# Altium schematic symbol library BuckConverterSchLib.SCHLIB: 28 symbols
Pins are listed as number, name and electrical type; pins without a type are passive.

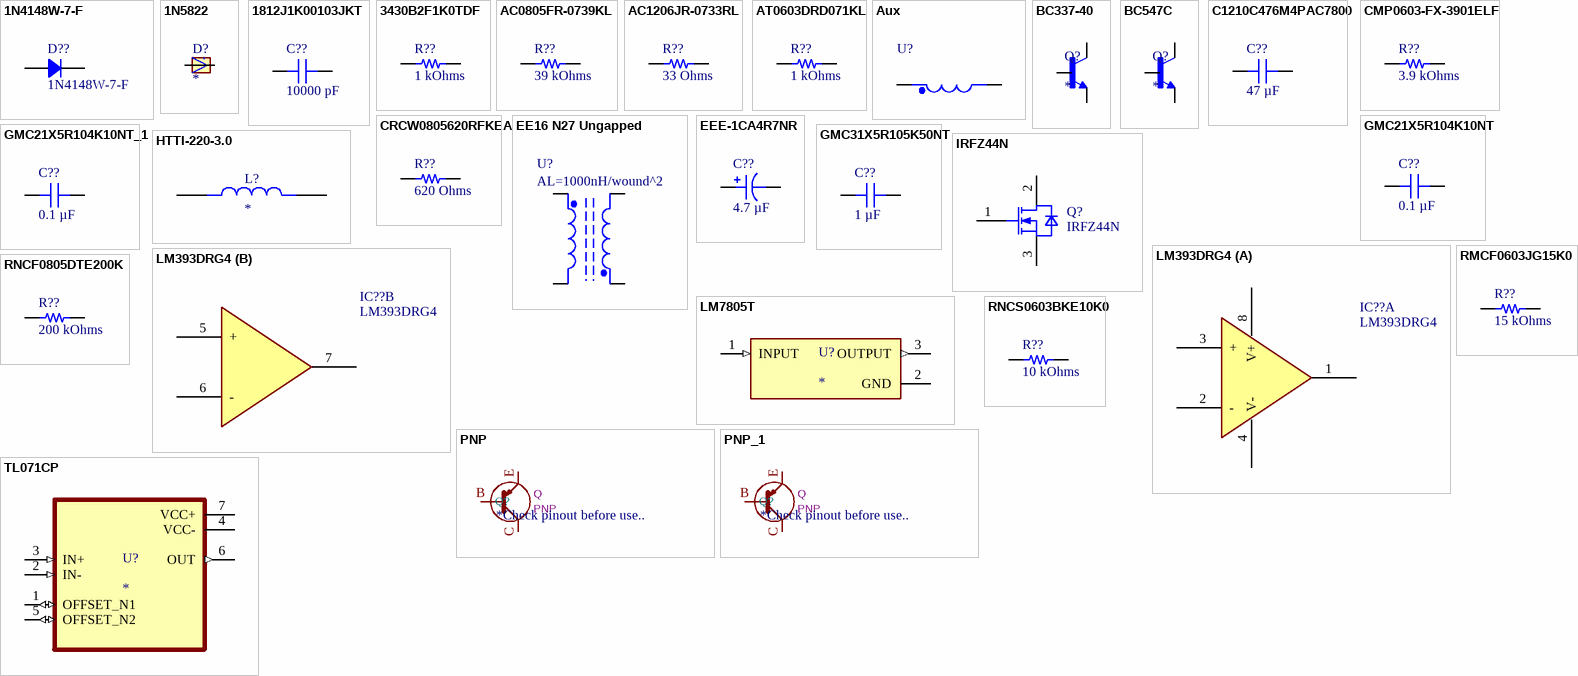
[diagram p0: symbols 1N4148W-7-F to TL071CP]

## 1N4148W-7-F
designator D??
DIODE STANDARD 100V 150MA SOD123; Manufacturer: Diodes Incorporated; Capacitance @ Vr, F: 2pF @ 0V, 1MHz; Current - Reverse Leakage @ Vr: 1 µA @ 75 V; Reverse Recovery Time (trr): 4 ns; Speed: Fast Recovery =< 500ns, > 200mA (Io); Voltage - Forward (Vf) (Max) @ If: 1.25 V @ 150 mA; Part Number: 1N4148W-7-F; ComponentLink1Description: Datasheet; ComponentLink1URL: https://www.diodes.com/assets/Datasheets/ds30086.pdf; ComponentLink2Description: DigiKey Link; ComponentLink2URL: https://www.digikey.com/en/products/detail/diodes-incorporated/1N4148W-7-F/814371; Current - Average Rectified (Io): 150mA; Diode Type: Standard; LastUpdated: 5.04.2026 20:31:46; Lifecycle Status: Active; Minimum Order: 1; Mounting Type: Surface Mount; Operating Temperature - Junction: -55°C ~ 150°C; Package / Case: SOD-123; Packaging: TapeAndReel; PartId: 1002; Part Status: Active; Price: 0.02; Series: -; Supplier 1: DigiKey; Supplier Part Number 1: 1N4148W-FDICT-ND; Supplier Device Package: SOD-123; Voltage - DC Reverse (Vr) (Max): 100 V
footprint SOD-123
pins: 1, 2

## 1N5822
designator D?
Schottky, DO-201, 40V, 3A, 150Â°C; MF: Diotec Semiconductor; MP: 1N5822; SnapEDA_Link: https://www.snapeda.com/parts/1N5822/Diotec/view-part/?ref=snap; Package: DO-201 Diotec; Value: *; Check_prices: https://www.snapeda.com/parts/1N5822/Diotec/view-part/?ref=eda
footprint DIOAD2120W130L950D530P
pins: A, C

## 1812J1K00103JKT
designator C??, comment 10000 pF
1812 1000VDC 10NF 5% C0G/NP0(1B); Part Number: 1812J1K00103JKT; manufacturer: Knowles Syfer; Temperature Coefficient: C0G, NP0 (1B); Voltage - Rated: 1000V (1kV); Value: 10000 pF; Applications: Automotive; Capacitance: 10000 pF; componentlink2description: DigiKey Link; componentlink2url: https://www.digikey.com/en/products/detail/knowles-syfer/1812J1K00103JKT/18879719; Device Package: 1812 (4532 Metric); Features: High Voltage; lastupdated: 6.04.2026 19:46:49; Lifecycle Status: Active; Minimum Order: 1; Mounting Type: Surface Mount, MLCC; Operating Temperature: -55°C ~ 125°C; Package / Case: 1812 (4532 Metric); packaging: TapeAndReel; Part Status: Active; price: 0.87; Ratings: AEC-Q200; series: -; Size / Dimension: 0.177" L x 0.126" W (4.50mm x 3.20mm); Supplier 1: DigiKey; Supplier Part Number 1: 1608-1812J1K00103JKTCT-ND; Thickness (Max): 0.126" (3.20mm); Tolerance: ±5%
footprint CAP 1812_4532 1.1MM
pins: 1, 2

## 3430B2F1K0TDF
designator R??, comment 1 kOhms
3430 B2 1% 1K0 100PPM 1K RL; Part Number: 3430B2F1K0TDF; Manufacturer: TE Connectivity Passive Product; Power (Watts): 1.5W; Temperature Coefficient: ±100ppm/°C; ComponentLink2Description: DigiKey Link; ComponentLink2URL: https://www.digikey.com/en/products/detail/te-connectivity-passive-product/3430B2F1K0TDF/17764078; Composition: Thick Film; Device Package: 1206 (3216 Metric); Features: Automotive AEC-Q200; Height - Seated (Max): 0.026" (0.65mm); LastUpdated: 6.04.2026 19:58:24; Lifecycle Status: Active; Minimum Order: 1; Number of Terminations: 2; Operating Temperature: -55°C ~ 155°C; Package / Case: 1206 (3216 Metric); Packaging: TapeAndReel; PartId: 77709; Part Status: Active; Price: 0.07; Ratings: AEC-Q200; Resistance: 1 kOhms; Series: 3430; Size / Dimension: 0.061" L x 0.118" W (1.55mm x 3.00mm); Supplier 1: DigiKey; Supplier Part Number 1: 1712-3430B2F1K0TDFCT-ND; Supplier Device Package: 0612; Tolerance: ±1%; Value: 1 kOhms
footprint RES 1206_3216
pins: 1, 2

## AC0805FR-0739KL
designator R??, comment 39 kOhms
RES SMD 39K OHM 1% 1/8W 0805; Part Number: AC0805FR-0739KL; Manufacturer: Yageo; Power (Watts): 0.125W, 1/8W; Temperature Coefficient: ±100ppm/°C; Value: 39 kOhms; ComponentLink1Description: Datasheet; ComponentLink1URL: https://www.yageo.com/upload/media/product/productsearch/datasheet/rchip/PYu-AC_51_RoHS_L_7.pdf; ComponentLink2Description: DigiKey Link; ComponentLink2URL: https://www.digikey.com/en/products/detail/yageo/AC0805FR-0739KL/5896800; Composition: Thick Film; Device Package: 0805 (2012 Metric); Features: Automotive AEC-Q200, Moisture Resistant; Height - Seated (Max): 0.024" (0.60mm); LastUpdated: 5.04.2026 21:18:18; Lifecycle Status: Active; Minimum Order: 1; Number of Terminations: 2; Operating Temperature: -55°C ~ 155°C; Package / Case: 0805 (2012 Metric); Packaging: CutTape; PartId: 27853; Part Status: Active; Price: 0.01; Ratings: AEC-Q200; Resistance: 39 kOhms; Series: AC; Size / Dimension: 0.079" L x 0.049" W (2.00mm x 1.25mm); Supplier 1: DigiKey; Supplier Part Number 1: YAG3727CT-ND; Supplier Device Package: 0805; Tolerance: ±1%
footprint YAGEO RES 0805_2012
pins: 1, 2

## AC1206JR-0733RL
designator R??, comment 33 Ohms
RES SMD 33 OHM 5% 1/4W 1206; Part Number: AC1206JR-0733RL; Manufacturer: Yageo; Power (Watts): 0.25W, 1/4W; Temperature Coefficient: ±100ppm/°C; ComponentLink1Description: Datasheet; ComponentLink1URL: https://www.yageo.com/upload/media/product/productsearch/datasheet/rchip/PYu-AC_51_RoHS_L_7.pdf; ComponentLink2Description: DigiKey Link; ComponentLink2URL: https://www.digikey.com/en/products/detail/yageo/AC1206JR-0733RL/5897837; Composition: Thick Film; Device Package: 1206 (3216 Metric); Features: Automotive AEC-Q200, Moisture Resistant; Height - Seated (Max): 0.026" (0.65mm); LastUpdated: 6.04.2026 20:00:51; Lifecycle Status: Active; Minimum Order: 1; Number of Terminations: 2; Operating Temperature: -55°C ~ 155°C; Package / Case: 1206 (3216 Metric); Packaging: TapeAndReel; PartId: 27117; Part Status: Active; Price: 0.01; Ratings: AEC-Q200; Resistance: 33 Ohms; Series: AC; Size / Dimension: 0.122" L x 0.063" W (3.10mm x 1.60mm); Supplier 1: DigiKey; Supplier Part Number 1: YAG3955CT-ND; Supplier Device Package: 1206; Tolerance: ±5%; Value: 33 Ohms
footprint RES 1206_3216
pins: 1, 2

## AT0603DRD071KL
designator R??, comment 1 kOhms
RES SMD 1K OHM 0.5% 1/10W 0603; Part Number: AT0603DRD071KL; Manufacturer: Yageo; Power (Watts): 0.1W, 1/10W; Temperature Coefficient: ±25ppm/°C; ComponentLink1Description: Datasheet; ComponentLink1URL: http://www.yageo.com/documents/recent/PYu-AT_51_RoHS_L_5.pdf; ComponentLink2Description: DigiKey Link; ComponentLink2URL: https://www.digikey.com/en/products/detail/yageo/AT0603DRD071KL/5138634; Composition: Thin Film; Device Package: 0603 (1608 Metric); Features: Anti-Sulfur, Automotive AEC-Q200, Moisture Resistant; Height - Seated (Max): 0.022" (0.55mm); LastUpdated: 6.04.2026 19:44:01; Lifecycle Status: Active; Minimum Order: 1; Number of Terminations: 2; Operating Temperature: -55°C ~ 155°C; Package / Case: 0603 (1608 Metric); Packaging: TapeAndReel; PartId: 4899; Part Status: Active; Price: 0.02; Ratings: AEC-Q200; Resistance: 1 kOhms; Series: AT; Size / Dimension: 0.063" L x 0.031" W (1.60mm x 0.80mm); Supplier 1: DigiKey; Supplier Part Number 1: YAG2115CT-ND; Supplier Device Package: 0603; Tolerance: ±0.5%; Value: 1 kOhms
footprint RES 0603_1608
pins: 1, 2

## Aux
designator U?
footprint 1206 Bead
pins: 1, 2

## BC337-40
designator Q?
BJT, TO-92, 45V, 800mA, NPN, 0.625W, 150Â°C; MF: Diotec Semiconductor; MP: BC337-40; SnapEDA_Link: https://www.snapeda.com/parts/BC337-40/Diotec/view-part/?ref=snap; Package: TO-92 Diotec; Value: *; Check_prices: https://www.snapeda.com/parts/BC337-40/Diotec/view-part/?ref=eda
footprint TO92127P460H470-3
pins: 1 C, 2 B, 3 E

## BC547C
designator Q?
BJT, TO-92, 45V, 100mA, NPN, 0.5W, 150Â°C; MF: Diotec Semiconductor; MP: BC547C; SnapEDA_Link: https://www.snapeda.com/parts/BC547C/Diotec/view-part/?ref=snap; Package: TO-92 Diotec; Value: *; Check_prices: https://www.snapeda.com/parts/BC547C/Diotec/view-part/?ref=eda
footprint TRANS_BC547C
pins: 1 C, 2 B, 3 E

## C1210C476M4PAC7800
designator C??, comment 47 µF
CAP CER 47UF 16V X5R 1210; Part Number: C1210C476M4PAC7800; manufacturer: KEMET; Tolerance: ±20%; Applications: Bypass, Decoupling; Capacitance: 47 µF; componentlink1description: Datasheet; componentlink1url: https://connect.kemet.com:7667/gateway/IntelliData-ComponentDocumentation/1.0/download/datasheet/C1210C476M4PACTU; componentlink2description: DigiKey Link; componentlink2url: https://www.digikey.com/en/products/detail/kemet/C1210C476M4PAC7800/1950674; Device Package: 1210 (3225 Metric); lastupdated: 6.04.2026 19:45:26; Lifecycle Status: Active; Minimum Order: 1; Mounting Type: Surface Mount, MLCC; Operating Temperature: -55°C ~ 85°C; Package / Case: 1210 (3225 Metric); packaging: TapeAndReel; partid: 45193; Part Status: Active; price: 0.32; series: SMD Comm X5R; Size / Dimension: 0.126" L x 0.098" W (3.20mm x 2.50mm); Supplier 1: DigiKey; Supplier Part Number 1: 399-C1210C476M4PAC7800CT-ND; Temperature Coefficient: X5R; Thickness (Max): 0.110" (2.80mm); Voltage - Rated: 16V; Value: 47 µF
footprint CAP 1210_3225 - 1MM
pins: 1, 2

## CMP0603-FX-3901ELF
designator R??, comment 3.9 kOhms
RESHIGHPOWER 0603 3K9 1% 1/4W TC; Part Number: CMP0603-FX-3901ELF; Manufacturer: Bourns Inc.; Power (Watts): 0.25W, 1/4W; Temperature Coefficient: ±100ppm/°C; Value: 3.9 kOhms; ComponentLink1Description: Datasheet; ComponentLink1URL: https://www.bourns.com/docs/Product-Datasheets/CMP.pdf; ComponentLink2Description: DigiKey Link; ComponentLink2URL: https://www.digikey.com/en/products/detail/bourns-inc/CMP0603-FX-3901ELF/12333604; Composition: Thick Film; Device Package: 0603 (1608 Metric); Features: Pulse Withstanding; Height - Seated (Max): 0.022" (0.55mm); LastUpdated: 9.02.2024 20:41:39; Lifecycle Status: Active; Minimum Order: 1; Number of Terminations: 2; Operating Temperature: -55°C ~ 155°C; Package / Case: 0603 (1608 Metric); Packaging: TapeAndReel; PartId: 64085; Part Status: Active; Price: 0.02; Resistance: 3.9 kOhms; Series: CMP; Size / Dimension: 0.063" L x 0.031" W (1.60mm x 0.80mm); Supplier 1: DigiKey; Supplier Part Number 1: 118-CMP0603-FX-3901ELFCT-ND; Supplier Device Package: 0603; Tolerance: ±1%
footprint RES 0603_1608
pins: 1, 2

## CRCW0805620RFKEA
designator R??, comment 620 Ohms
RES SMD 620 OHM 1% 1/8W 0805; Part Number: CRCW0805620RFKEA; Manufacturer: Vishay Dale; Power (Watts): 0.125W, 1/8W; Temperature Coefficient: ±100ppm/°C; Value: 620 Ohms; ComponentLink1Description: Datasheet; ComponentLink1URL: http://www.vishay.com/docs/20035/dcrcwe3.pdf; ComponentLink2Description: DigiKey Link; ComponentLink2URL: https://www.digikey.com/en/products/detail/vishay-dale/CRCW0805620RFKEA/1175614; Composition: Thick Film; Device Package: 0805 (2012 Metric); Features: Automotive AEC-Q200; Height - Seated (Max): 0.020" (0.50mm); LastUpdated: 5.04.2026 20:11:04; Lifecycle Status: Active; Minimum Order: 1; Number of Terminations: 2; Operating Temperature: -55°C ~ 155°C; Package / Case: 0805 (2012 Metric); Packaging: TapeAndReel; PartId: 32921; Part Status: Active; Price: 0.01; Ratings: AEC-Q200; Resistance: 620 Ohms; Series: D/CRCW e3; Size / Dimension: 0.079" L x 0.049" W (2.00mm x 1.25mm); Supplier 1: DigiKey; Supplier Part Number 1: 541-620CCT-ND; Supplier Device Package: 0805; Tolerance: ±1%
footprint RES 0805_2012
pins: 1, 2

## EE16 N27 Ungapped
designator U?, comment AL=1000nH/wound^2
EE16 N27 Ungapped AL=1000nH/wound^2
footprint EE16 N27 Ungapped (Footprint not found)
pins: 1, 2, 3, 4

## EEE-1CA4R7NR
designator C??, comment 4.7 µF
CAP ALUM 4.7UF 20% 16V SMD; Part Number: EEE-1CA4R7NR; manufacturer: Panasonic Electronic Components; Lifetime @ Temp.: 2000 Hrs @ 85°C; Polarization: Polar; Ripple Current @ High Frequency: 34 mA @ 10 kHz; Ripple Current @ Low Frequency: 20 mA @ 120 Hz; Surface Mount Land Size: 0.169" L x 0.169" W (4.30mm x 4.30mm); Applications: Automotive; Capacitance: 4.7 µF; componentlink1description: Datasheet; componentlink1url: //media.digikey.com/pdf/Data%20Sheets/Panasonic%20Electronic%20Components/S_Series,Type_V_Rev2018.pdf; componentlink2description: DigiKey Link; componentlink2url: https://www.digikey.com/en/products/detail/panasonic-electronic-components/EEE-1CA4R7NR/946205; Device Package: Radial, Can - SMD; Height - Seated (Max): 0.217" (5.50mm); lastupdated: 5.04.2026 20:29:49; Lifecycle Status: Active; Minimum Order: 1; Mounting Type: Surface Mount; Operating Temperature: -40°C ~ 85°C; Package / Case: Radial, Can - SMD; packaging: TapeAndReel; partid: 7087; Part Status: Active; price: 0.07; Ratings: AEC-Q200; series: S; Size / Dimension: 0.157" Dia (4.00mm); Supplier 1: DigiKey; Supplier Part Number 1: PCE4290CT-ND; Tolerance: ±20%; value: 4.7 µF; Voltage - Rated: 16 V
footprint CAP ALSMD 4.3MM H5.4MM
pins: 1, 2

## GMC21X5R104K10NT
designator C??, comment 0.1 µF
CAP0805 X5R .1UF 10% 35V; Part Number: GMC21X5R104K10NT; manufacturer: Cal-Chip Electronics, Inc.; Voltage - Rated: 10V; Applications: General Purpose; componentlink1description: Datasheet; componentlink1url: https://calchip.com/wp-content/uploads/2024/02/gmc_series-1.pdf; componentlink2description: DigiKey Link; componentlink2url: https://www.digikey.com/en/products/detail/cal-chip-electronics-inc/GMC21X5R104K10NT/25622748; Device Package: 0805 (2012 Metric); lastupdated: 6.04.2026 19:28:50; Lifecycle Status: Active; Minimum Order: 1; Mounting Type: Surface Mount, MLCC; Operating Temperature: -55°C ~ 85°C; Package / Case: 0805 (2012 Metric); packaging: TapeAndReel; partid: 70307; price: 0.01; series: GMC; Size / Dimension: 0.079" L x 0.049" W (2.00mm x 1.25mm); Supplier 1: DigiKey; Supplier Part Number 1: 4713-GMC21X5R104K10NTCT-ND; Temperature Coefficient: X5R; Thickness (Max): 0.037" (0.95mm); Tolerance: ±10%; value: 0.1 µF; Capacitance: 0.1 µF
footprint CAP 0805_2012
pins: 1, 2

## GMC21X5R104K10NT_1
designator C??, comment 0.1 µF
CAP0805 X5R .1UF 10% 10V; Part Number: GMC21X5R104K10NT; manufacturer: Cal-Chip Electronics, Inc.; Applications: General Purpose; componentlink1description: Datasheet; componentlink1url: https://calchip.com/wp-content/uploads/2024/02/gmc_series-1.pdf; componentlink2description: DigiKey Link; componentlink2url: https://www.digikey.com/en/products/detail/cal-chip-electronics-inc/GMC21X5R104K10NT/25622748; Device Package: 0805 (2012 Metric); lastupdated: 6.04.2026 19:28:50; Lifecycle Status: Active; Minimum Order: 1; Mounting Type: Surface Mount, MLCC; Operating Temperature: -55°C ~ 85°C; Package / Case: 0805 (2012 Metric); packaging: TapeAndReel; partid: 70307; price: 0.01; series: GMC; Size / Dimension: 0.079" L x 0.049" W (2.00mm x 1.25mm); Supplier 1: DigiKey; Supplier Part Number 1: 4713-GMC21X5R104K10NTCT-ND; Temperature Coefficient: X5R; Thickness (Max): 0.037" (0.95mm); Tolerance: ±10%; value: 0.1 µF; Voltage - Rated: 10V; Capacitance: 0.1 µF
footprint CAP 0805_2012
pins: 1, 2

## GMC31X5R105K50NT
designator C??, comment 1 µF
CAP1206 X5R 1UF 10% 50V; Part Number: GMC31X5R105K50NT; manufacturer: Cal-Chip Electronics, Inc.; Applications: General Purpose; componentlink1description: Datasheet; componentlink1url: https://calchip.com/wp-content/uploads/2025/05/GMC-Series-3.pdf; componentlink2description: DigiKey Link; componentlink2url: https://www.digikey.com/en/products/detail/cal-chip-electronics-inc/GMC31X5R105K50NT/25975027; Device Package: 1206 (3216 Metric); lastupdated: 6.04.2026 19:35:41; Lifecycle Status: Active; Minimum Order: 1; Mounting Type: Surface Mount, MLCC; Operating Temperature: -55°C ~ 85°C; Package / Case: 1206 (3216 Metric); packaging: TapeAndReel; partid: 75317; price: 0.03; series: GMC; Size / Dimension: 0.126" L x 0.063" W (3.20mm x 1.60mm); Supplier 1: DigiKey; Supplier Part Number 1: 4713-GMC31X5R105K50NTCT-ND; Temperature Coefficient: X5R; Thickness (Max): 0.071" (1.80mm); Tolerance: ±10%; value: 1 µF; Voltage - Rated: 50V; Capacitance: 1 µF
footprint CAP 1206_3216 - 0.8MM
pins: 1, 2

## HTTI-220-3.0
designator L?
High Current High Temperature Toroidal Inductor | 220uH | 3A | 0.13Ohm; MF: Signal Transformer; MP: HTTI-220-3.0; SnapEDA_Link: https://www.snapeda.com/parts/HTTI-220-3.0/Signal+Transformer/view-part/?ref=snap; Package: None; Value: *; Check_prices: https://www.snapeda.com/parts/HTTI-220-3.0/Signal+Transformer/view-part/?ref=eda
footprint IND_HTTI-220-3.0
pins: 1, 2

## IRFZ44N
designator Q?
OptiMOS 3 Power-Transistor, VDS 100V; Manufacturer: Infineon Technologies; Manufacturer Order Number: IRFZ44N; PackageReference: PG-TO220-3-904
pins: 1 GATE, 2 DRAIN, 3 SOURCE

## LM393DRG4
designator IC??
IC DUAL DIFF COMPARATOR 8-SOIC; Manufacturer: Texas Instruments; Current - Input Bias (Max): 0.25µA @ 5V; Current - Output (Typ): 20mA; Current - Quiescent (Max): 2.5mA; Number of Elements: 2; Output Type: CMOS, MOS, Open-Drain, TTL; Voltage - Input Offset (Max): 5mV @ 30V; Voltage - Supply, Single/Dual (±): 2V ~ 36V, ±1V ~ 18V; Part Number: LM393DRG4; ComponentLink1Description: Datasheet; ComponentLink1URL: http://www.ti.com/general/docs/suppproductinfo.tsp?distId=10&gotoUrl=http%3A%2F%2Fwww.ti.com%2Flit%2Fgpn%2Flm193; ComponentLink2Description: DigiKey Link; ComponentLink2URL: http://digikey.com/product-detail/en/texas-instruments/LM393DRG4/296-31672-1-ND/3505876; Device Package: 8-SOIC (0.154", 3.90mm Width); LastUpdated: 30.03.2020 15:17:12; Lifecycle Status: Active; Minimum Order: 1; Mounting Type: Surface Mount; Operating Temperature: 0°C ~ 70°C; Package / Case: 8-SOIC (0.154", 3.90mm Width); Packaging: TapeAndReel; Part Status: Active; Price: 0.10; Series: -; Supplier 1: DigiKey; Supplier Part Number 1: 296-31672-1-ND; Supplier Device Package: 8-SOIC; Type: Differential
footprint TI SOIC-8 D
part A pins: 1 OUTA, 2 -, 3 +, 4 V-, 8 V+
part B pins: 5 +, 6 -, 7 OUTB

## LM7805T
designator U?
3-Terminal 1.5A Positive Fixed Voltage Regulator; MF: TAEJIN; MP: LM7805T; SnapEDA_Link: https://www.snapeda.com/parts/LM7805T/TAEJIN/view-part/?ref=snap; Package: TO-220-3 TAEJIN; Value: *; Check_prices: https://www.snapeda.com/parts/LM7805T/TAEJIN/view-part/?ref=eda
footprint TO254P1011X457X1950-3
pins: 1 INPUT (in), 2 GND (power), 3 OUTPUT (out)

## PNP
designator Q?, comment *Check pinout before use..  value PNP  Reference: Q
ki_keywords: PNP Bipolar Transistor; ki_description: Symbol for PNP BJT
footprint TO-92_CBE
footprint TO-92_EBC (10D3)
pins: B, C, E

## PNP_1
designator Q?, comment *Check pinout before use..  value PNP  Reference: Q
ki_keywords: PNP Bipolar Transistor; ki_description: Symbol for PNP BJT
footprint TO-92_CBE
footprint TO-92_EBC (10D3)
pins: B, C, E

## RMCF0603JG15K0
designator R??, comment 15 kOhms
RES 15K OHM 5% 1/10W 0603; Part Number: RMCF0603JG15K0; Manufacturer: Stackpole Electronics Inc; Power (Watts): 0.1W, 1/10W; Temperature Coefficient: ±200ppm/°C; ComponentLink1Description: Datasheet; ComponentLink1URL: https://www.seielect.com/catalog/sei-rmcf_rmcp.pdf; ComponentLink2Description: DigiKey Link; ComponentLink2URL: https://www.digikey.com/en/products/detail/stackpole-electronics-inc/RMCF0603JG15K0/1712157; Composition: Thick Film; Device Package: 0603 (1608 Metric); Features: Automotive AEC-Q200; Height - Seated (Max): 0.022" (0.55mm); LastUpdated: 9.02.2024 20:43:35; Lifecycle Status: Active; Minimum Order: 1; Number of Terminations: 2; Operating Temperature: -55°C ~ 155°C; Package / Case: 0603 (1608 Metric); Packaging: CutTape; PartId: 5200; Part Status: Active; Price: 0.01; Ratings: AEC-Q200; Resistance: 15 kOhms; Series: RMCF; Size / Dimension: 0.061" L x 0.031" W (1.55mm x 0.80mm); Supplier 1: DigiKey; Supplier Part Number 1: RMCF0603JG15K0CT-ND; Supplier Device Package: 0603; Tolerance: ±5%; Value: 15 kOhms
footprint RES 0603_1608
pins: 1, 2

## RNCF0805DTE200K
designator R??, comment 200 kOhms
RES SMD 200K OHM 0.5% 1/4W 0805; Part Number: RNCF0805DTE200K; Manufacturer: Stackpole Electronics Inc; Power (Watts): 0.25W, 1/4W; Temperature Coefficient: ±25ppm/°C; ComponentLink1Description: Datasheet; ComponentLink1URL: https://www.seielect.com/catalog/sei-rncf.pdf; ComponentLink2Description: DigiKey Link; ComponentLink2URL: https://www.digikey.com/en/products/detail/stackpole-electronics-inc/RNCF0805DTE200K/6242022; Composition: Thin Film; Device Package: 0805 (2012 Metric); Features: Automotive AEC-Q200; Height - Seated (Max): 0.026" (0.65mm); LastUpdated: 5.04.2026 20:11:25; Lifecycle Status: Active; Minimum Order: 1; Number of Terminations: 2; Operating Temperature: -55°C ~ 155°C; Package / Case: 0805 (2012 Metric); Packaging: TapeAndReel; PartId: 27998; Part Status: Active; Price: 0.01; Ratings: AEC-Q200; Resistance: 200 kOhms; Series: RNCF; Size / Dimension: 0.079" L x 0.049" W (2.00mm x 1.25mm); Supplier 1: DigiKey; Supplier Part Number 1: 738-RNCF0805DTE200KCT-ND; Supplier Device Package: 0805; Tolerance: ±0.5%; Value: 200 kOhms
footprint RES 0805_2012
pins: 1, 2

## RNCS0603BKE10K0
designator R??, comment 10 kOhms
RES 10K OHM 0.1% 1/16W 0603; Part Number: RNCS0603BKE10K0; Manufacturer: Stackpole Electronics Inc; Power (Watts): 0.063W, 1/16W; Temperature Coefficient: ±25ppm/°C; ComponentLink1Description: Datasheet; ComponentLink1URL: https://www.seielect.com/catalog/sei-rncs_rnch.pdf; ComponentLink2Description: DigiKey Link; ComponentLink2URL: https://www.digikey.com/en/products/detail/stackpole-electronics-inc/RNCS0603BKE10K0/1708836; Composition: Thin Film; Device Package: 0603 (1608 Metric); Features: Anti-Corrosive, Automotive AEC-Q200, Moisture Resistant; Height - Seated (Max): 0.022" (0.55mm); LastUpdated: 9.02.2024 20:43:37; Lifecycle Status: Active; Minimum Order: 1; Number of Terminations: 2; Operating Temperature: -55°C ~ 155°C; Package / Case: 0603 (1608 Metric); Packaging: TapeAndReel; PartId: 4838; Part Status: Active; Price: 0.06; Ratings: AEC-Q200; Resistance: 10 kOhms; Series: RNCS; Size / Dimension: 0.061" L x 0.031" W (1.55mm x 0.80mm); Supplier 1: DigiKey; Supplier Part Number 1: RNCS0603BKE10K0CT-ND; Supplier Device Package: 0603; Tolerance: ±0.1%; Value: 10 kOhms
footprint RES 0603_1608
pins: 1, 2

## TL071CP
designator U?
Single, 30-V, 3-MHz, high slew rate (13-V/Âµs), In to V+, JFET-input op amp; MF: Texas Instruments; MP: TL071CP; SnapEDA_Link: https://www.snapeda.com/parts/TL071CP/Texas+Instruments/view-part/?ref=snap; Package: PDIP-8 Texas; Value: *; Check_prices: https://www.snapeda.com/parts/TL071CP/Texas+Instruments/view-part/?ref=eda
footprint DIP794W45P254L959H508Q8
pins: 1 OFFSET_N1 (io), 2 IN- (in), 3 IN+ (in), 4 VCC- (power), 5 OFFSET_N2 (io), 6 OUT (out), 7 VCC+ (power)